# EAGLE library part STM8S103F* (library stm8s103)
STM8S103F*
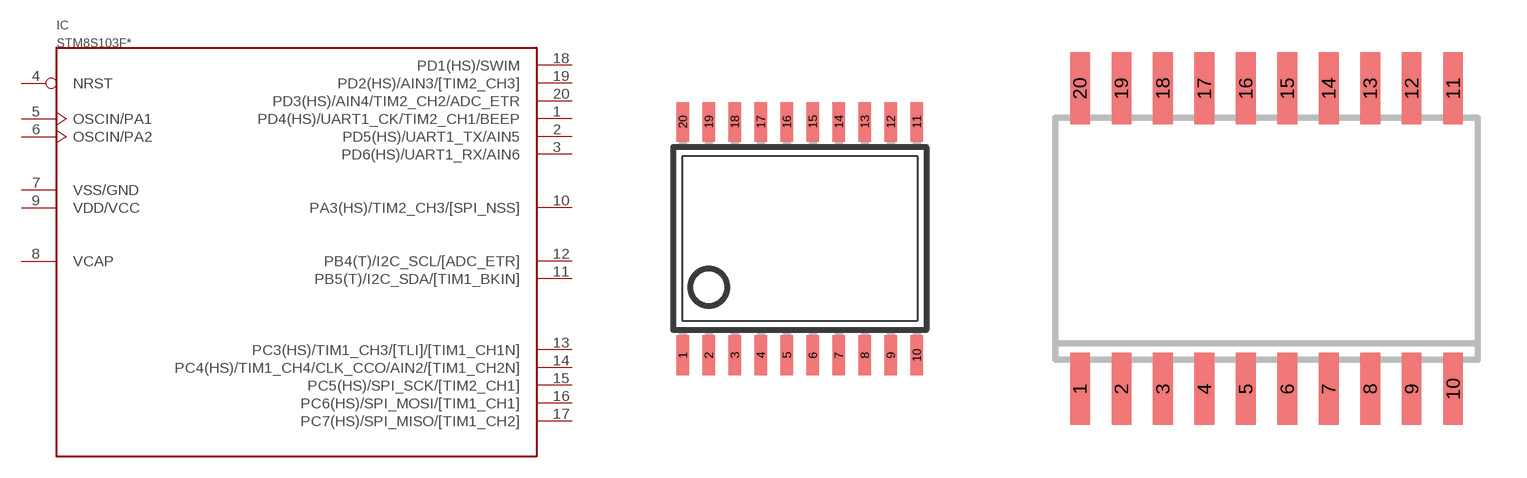
[diagram p0: symbol with the pads of TSSOP20; footprints TSSOP20, SO20W]

Designator prefix IC

## STM8S103FP  [TSSOP20]
1  PD4(HS)/UART1_CK/TIM2_CH1/BEEP
2  PD5(HS)/UART1_TX/AIN5
3  PD6(HS)/UART1_RX/AIN6
4  NRST
5  OSCIN/PA1
6  OSCIN/PA2
7  VSS/GND  pwr
8  VCAP  pwr
9  VDD/VCC  pwr
10  PA3(HS)/TIM2_CH3/[SPI_NSS]
11  PB5(T)/I2C_SDA/[TIM1_BKIN]
12  PB4(T)/I2C_SCL/[ADC_ETR]
13  PC3(HS)/TIM1_CH3/[TLI]/[TIM1_CH1N]
14  PC4(HS)/TIM1_CH4/CLK_CCO/AIN2/[TIM1_CH2N]
15  PC5(HS)/SPI_SCK/[TIM2_CH1]
16  PC6(HS)/SPI_MOSI/[TIM1_CH1]
17  PC7(HS)/SPI_MISO/[TIM1_CH2]
18  PD1(HS)/SWIM
19  PD2(HS)/AIN3/[TIM2_CH3]
20  PD3(HS)/AIN4/TIM2_CH2/ADC_ETR

## STM8S103FM  [SO20W]
Pads as for TSSOP20

## Footprint TSSOP20 (pad centres in mm)
Thin Shrink Small Outline Plastic 20 MAX3223-MAX3243.pdf
smd 0.305 x 0.991: 1 -2.925,-2.918; 2 -2.275,-2.918; 3 -1.625,-2.918; 4 -0.975,-2.918; 5 -0.325,-2.918; 6 0.325,-2.918; 7 0.975,-2.918; 8 1.625,-2.918; 9 2.275,-2.918; 10 2.925,-2.918; 11 2.925,2.918; 12 2.275,2.918; 13 1.625,2.918; 14 0.975,2.918; 15 0.325,2.918; 16 -0.325,2.918; 17 -0.975,2.918; 18 -1.625,2.918; 19 -2.275,2.918; 20 -2.925,2.918

## Footprint SO20W (pad centres in mm)
SMALL OUTLINE INTEGRATED CIRCUIT wide body 7.5 mm/JEDEC MS-013AC
smd 0.6 x 2.2: 1 -5.715,-4.6; 2 -4.445,-4.6; 3 -3.175,-4.6; 4 -1.905,-4.6; 5 -0.635,-4.6; 6 0.635,-4.6; 7 1.905,-4.6; 8 3.175,-4.6; 9 4.445,-4.6; 10 5.715,-4.6; 11 5.715,4.6; 12 4.445,4.6; 13 3.175,4.6; 14 1.905,4.6; 15 0.635,4.6; 16 -0.635,4.6; 17 -1.905,4.6; 18 -3.175,4.6; 19 -4.445,4.6; 20 -5.715,4.6